# Altium footprint library DPAK254P1510X470.PcbLib: 1 footprints
Each footprint in its own frame and in the unit in brackets; x right, y up, seen from the top. Pads: shape width x height; smd on the part's side, far side on the other; paste and mask are expansions set on the pad; w line width, h text height; cw(c..) or ccw(c..) is an arc to the next point about the centre after c.
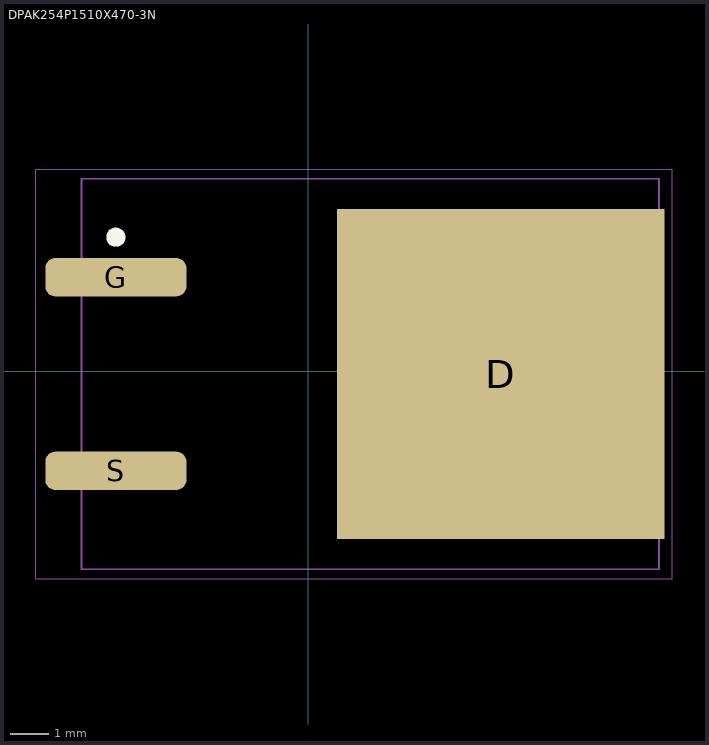
[diagram p0: the footprint, top view; thin cyan lines are the x and y axes]

## DPAK254P1510X470-3N [mm] "TO-263-3, D2PAK"
height 4.83
pads (3):
  rect 8.6x8.65 smd: D(5.053,-0.075)
  rrect50% 3.7x1 smd: G(-5.047,2.465) S(-5.047,-2.615)
Top Overlay:
  circle w0.25: c-5.047,3.515 r0.125
Mechanical 9:
  lines w0.05: -5.947,-5.2 9.203,-5.2 9.203,5.05 -5.947,5.05 -5.947,-5.2
  text ".Designator" at -2.447,-0.525 h3
Mechanical 11:
  circle w0.001: c1.203,-0.075 r0.25
  lines w0.001: 0.853,-0.075 1.553,-0.075 ; 1.203,-0.425 1.203,0.275
Mechanical 15:
  lines w0.001: -7.147,-5.45 9.553,-5.45 9.553,5.3 -7.147,5.3 -7.147,-5.45
3D body "DPAK254P1510X470-3N.step": height 4.7, standoff 0, extent -5.912,-5.2 9.188,5.05